# Altium schematic symbol library MCP970X Thermistor IC.SchLib: 1 symbol
Pins are listed as number, name and electrical type; pins without a type are passive.

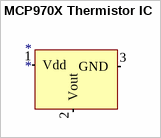
[diagram p0: symbol MCP970X Thermistor IC]

## MCP970X Thermistor IC
designator *
pins: 1 Vdd (in), 2 Vout (in), 3 GND (in)